# Altium footprint library Switch_Littelfuse_MDSR-4-12-23_eec_MFG.PcbLib: 1 footprints
Each footprint in its own frame and in the unit in brackets; x right, y up, seen from the top. Pads: shape width x height; smd on the part's side, far side on the other; paste and mask are expansions set on the pad; w line width, h text height; cw(c..) or ccw(c..) is an arc to the next point about the centre after c.
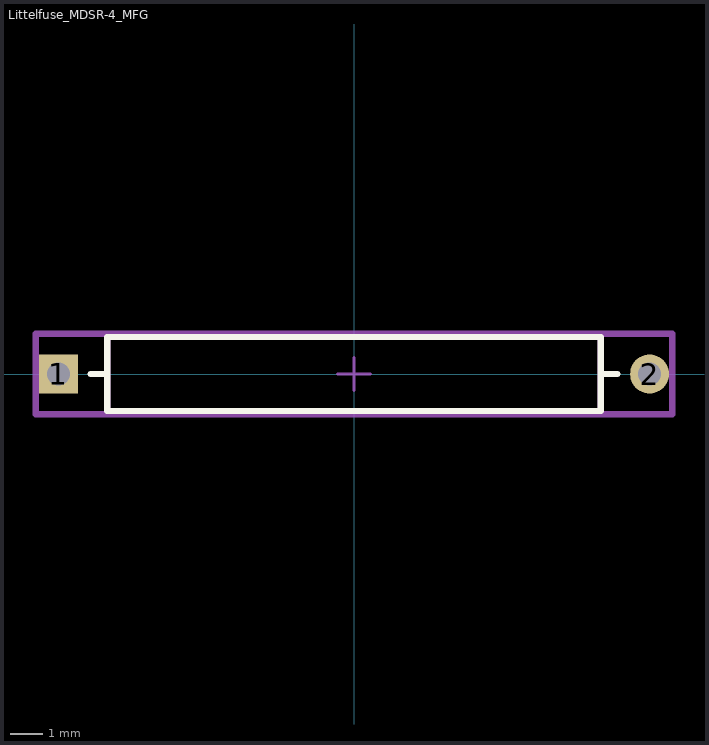
[diagram p0: the footprint, top view; thin cyan lines are the x and y axes]

## Littelfuse_MDSR-4_MFG [mm]
pads (2):
  rect 1.2x1.2 hole 0.7 paste-1000 mask+0: 1(-9.128,0)
  round 1.2 hole 0.7 paste-1000 mask+0: 2(9.128,0)
Top Overlay:
  lines w0.2: -8.128,0 -7.62,0 ; 7.62,0 8.128,0 ; -7.62,-1.143 7.62,-1.143 7.62,1.143 -7.62,1.143 -7.62,-1.143
Mechanical 10:
  lines w0.2: -9.828,-1.243 9.828,-1.243 9.828,1.243 -9.828,1.243 -9.828,-1.243
  text ".Designator" at 0,0.188 h1
Mechanical 12:
  lines w0.2: -7.62,-1.143 7.62,-1.143 7.62,1.143 -7.62,1.143 -7.62,-1.143
Mechanical 15:
  lines w0.1: -0.5,0 0.5,0 ; 0,-0.5 0,0.5
  lines w0.2: -9.828,-1.243 9.828,-1.243 9.828,1.243 -9.828,1.243 -9.828,-1.243
3D body "Switch_Littelfuse_MDSR-4-12-23_eec.STEP": height 0.25, standoff 0, extent -9.828,-1.243 9.828,1.243